# Altium schematic symbol library hirose-df13.SchLib: 4 symbols
Pins are listed as number, name and electrical type; pins without a type are passive.

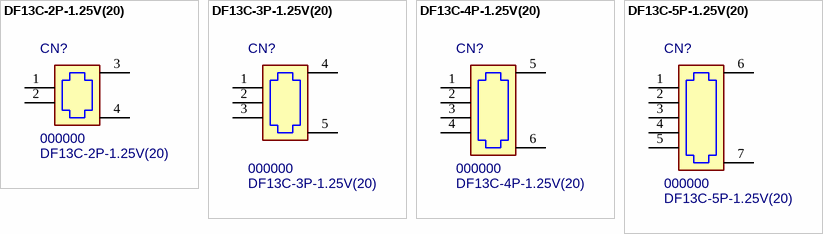
[diagram p0: symbols DF13C-2P-1.25V(20) to DF13C-5P-1.25V(20)]

## DF13C-2P-1.25V(20)
designator CN?, comment 000000  value DF13C-2P-1.25V(20)
2pos, 1.25mm Wire to Board Connector, Header, SMT, Vertical; MF: Hirose; PN: 000000; Package: SMT; ExtraInfo: *
footprint 1734260-2 (2pos, 1.25mm Wire to Board Connector, Header, SMT, Vertical)
pins: 1, 2, 3 TAB, 4 TAB

## DF13C-3P-1.25V(20)
designator CN?, comment 000000  value DF13C-3P-1.25V(20)
3pos, 1.25mm Wire to Board Connector, Header, SMT, Vertical; MF: Hirose; PN: 000000; Package: SMT; ExtraInfo: *
footprint 1734260-3 (3pos, 1.25mm Wire to Board Connector, Header, SMT, Vertical)
pins: 1, 2, 3, 4 TAB, 5 TAB

## DF13C-4P-1.25V(20)
designator CN?, comment 000000  value DF13C-4P-1.25V(20)
4pos, 1.25mm Wire to Board Connector, Header, SMT, Vertical; MF: Hirose; PN: 000000; Package: SMT; ExtraInfo: *
footprint DF13C-4P-1.25V(20) (4pos, 1.25mm Wire to Board Connector, Header, SMT, Vertical)
pins: 1, 2, 3, 4, 5 TAB, 6 TAB

## DF13C-5P-1.25V(20)
designator CN?, comment 000000  value DF13C-5P-1.25V(20)
4pos, 1.25mm Wire to Board Connector, Header, SMT, Vertical; MF: Hirose; PN: 000000; ExtraInfo: *; Package: SMT
footprint 1734260-5 (5pos, 1.25mm Wire to Board Connector, Header, SMT, Vertical)
pins: 1, 2, 3, 4, 5, 6 TAB, 7 TAB